# Altium footprint library Diodes.PcbLib: 19 footprints (part 1 of 2)
Each footprint in its own frame and in the unit in brackets; x right, y up, seen from the top. Pads: shape width x height; smd on the part's side, far side on the other; paste and mask are expansions set on the pad; w line width, h text height; cw(c..) or ccw(c..) is an arc to the next point about the centre after c.
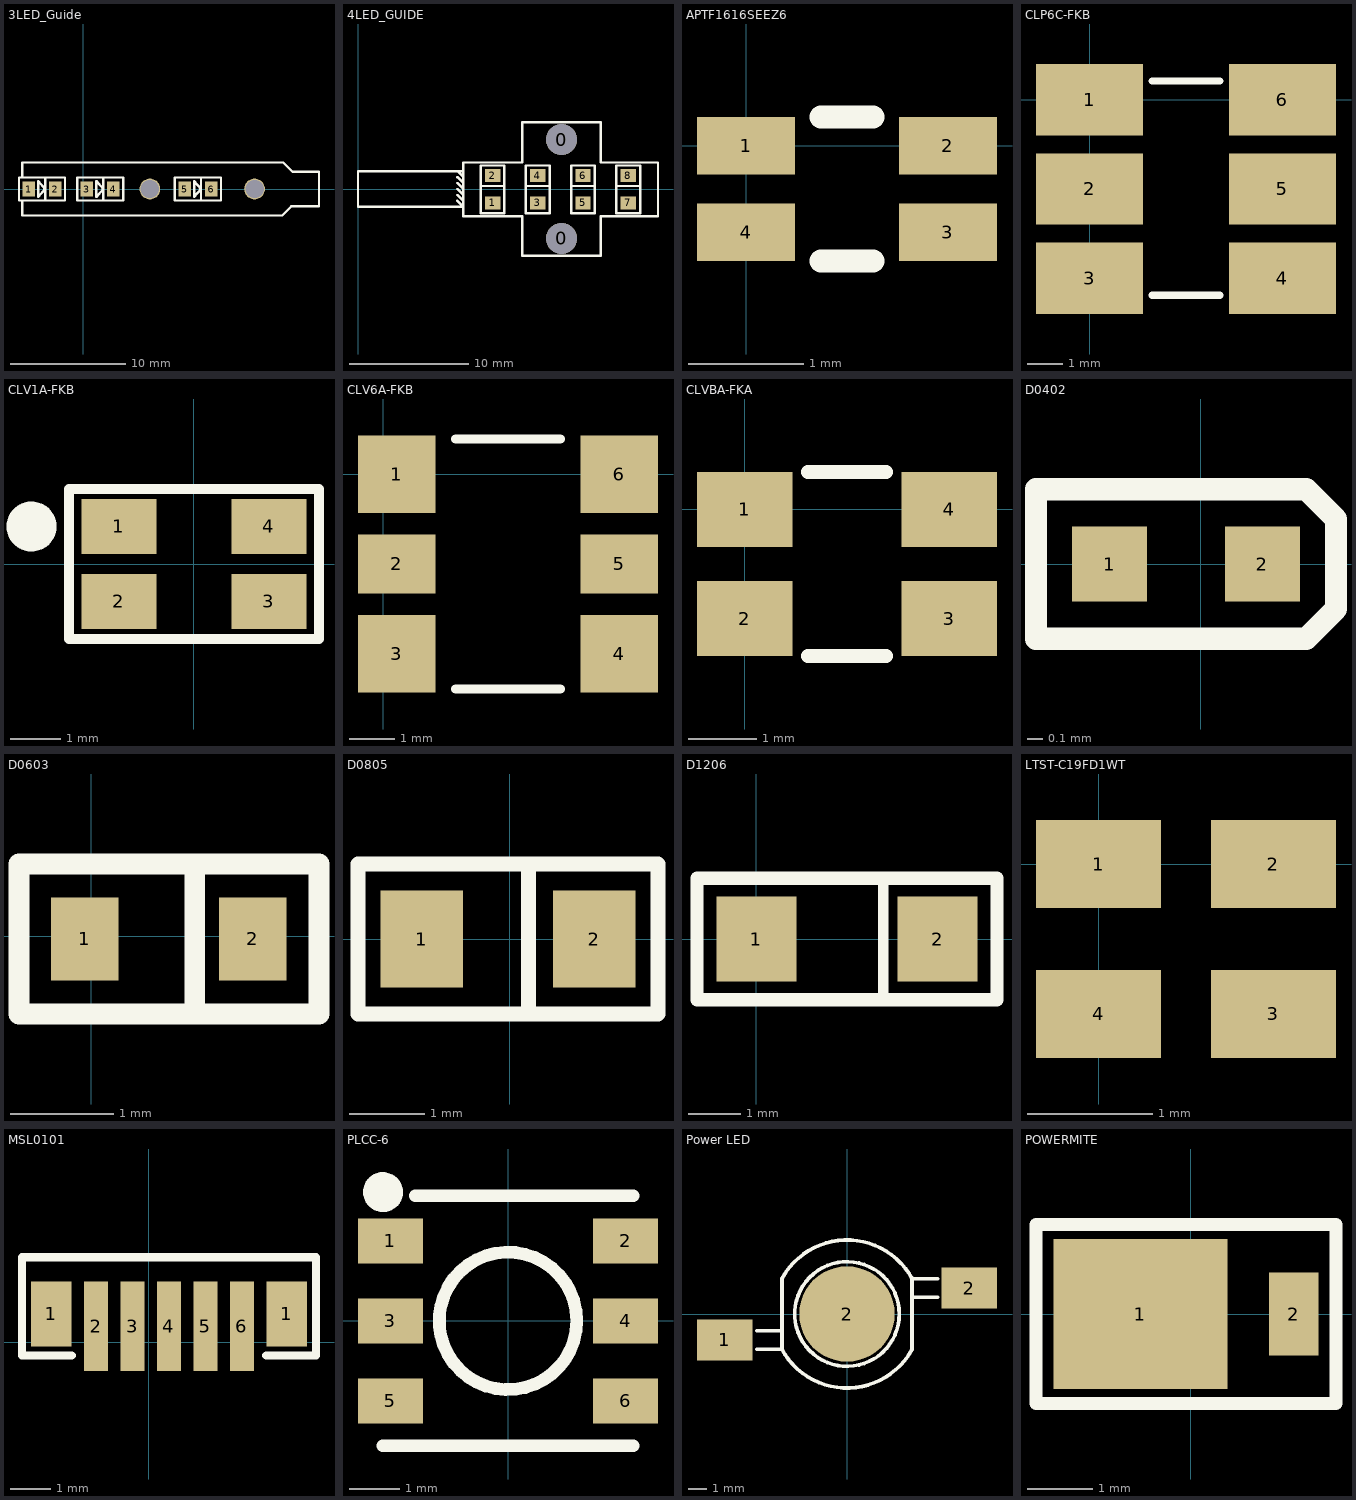
[diagram p0: the footprints below, top view; thin cyan lines are the x and y axes]

## 3LED_Guide [mm] "7511B11"
pads (8):
  rect 1.1x1.3 smd: 1(-4.725,0) 2(-2.425,0) 3(0.325,0) 4(2.625,0) 5(8.825,0) 6(11.125,0)
  round 1.8 hole 1.6: ""(5.8,0) ""(14.9,0)
Top Overlay:
  lines w0.2: -5.3,-1 -5.3,-2.3 17.3,-2.3 18.1,-1.5 20.4,-1.5 ; -5.3,1 -5.3,2.3 17.4,2.3 18.2,1.5 20.5,1.5 20.5,-1.5 ; -3.3,-1 -3.3,1 ; 1.75,-1 1.75,1 ; 10.25,-1 10.25,1 ; -5.575,-1 -5.575,1 -1.575,1 -1.575,-1 -5.575,-1 ; -3.9,-0.7 -3.3,0 -3.9,0.7 -3.9,-0.7 ; -0.525,-1 -0.525,1 3.475,1 3.475,-1 -0.525,-1 ; 1.15,-0.7 1.15,0.7 1.75,0 1.15,-0.7 ; 7.975,-1 7.975,1 11.975,1 11.975,-1 7.975,-1 ; 9.65,-0.7 9.65,0.7 10.25,0 9.65,-0.7
3D body "User Library-led_0805LED0805_red.STEP": height 1.1, standoff 0, extent 8.99,-0.625 11.01,0.625
3D body "User Library-led_0805LED0805_red.STEP": height 1.1, standoff 0, extent 0.49,-0.625 2.51,0.625
3D body "User Library-led_0805LED0805_red.STEP": height 1.1, standoff 0, extent -4.56,-0.625 -2.54,0.625

## 4LED_GUIDE [mm] "For Mentor Led Guide"
pads (10):
  round 2.6 hole 2.6 paste+0 mask+0: 0(17.1,-4.15) 0(17.1,4.15)
  rect 1.3x1.1 smd: 1(11.3,-1.175) 2(11.3,1.125) 3(15.1,-1.175) 4(15.1,1.125) 5(18.9,-1.175) 6(18.9,1.125) 7(22.7,-1.175) 8(22.7,1.125)
Top Overlay:
  lines w0.2: 8.35,-1 8.85,-1.5 0,-1.5 0,1.5 8.85,1.5 ; 8.35,-0.5 8.85,-1 ; 8.35,0 8.85,-0.5 ; 8.35,0.5 8.85,0 ; 8.35,1 8.85,0.5 ; 8.35,1.5 8.85,1 ; 10.3,0.25 12.3,0.25 ; 14.1,0.25 16.1,0.25 ; 17.9,0.25 19.9,0.25 ; 21.7,0.25 23.7,0.25 ; 13.8,-5.6 13.8,-2.275 8.85,-2.275 8.85,2.225 13.8,2.225 13.8,5.6 ; 13.8,-5.6 13.8,-5.6 ; 13.8,-5.6 20.4,-5.6 20.4,-2.275 25.2,-2.275 25.2,2.225 20.4,2.225 20.4,5.6 13.8,5.6 ; 13.8,5.6 13.8,5.6 ; 13.8,5.6 13.8,5.6 ; 10.3,-2.025 10.3,1.975 12.3,1.975 12.3,-2.025 10.3,-2.025 ; 14.1,-2.025 14.1,1.975 16.1,1.975 16.1,-2.025 14.1,-2.025 ; 17.9,-2.025 17.9,1.975 19.9,1.975 19.9,-2.025 17.9,-2.025 ; 21.7,-2.025 21.7,1.975 23.7,1.975 23.7,-2.025 21.7,-2.025
3D body "User Library-led_0805LED0805_red.STEP": height 1.1, standoff 0, extent 22.075,-1.01 23.325,1.01
3D body "User Library-led_0805LED0805_red.STEP": height 1.1, standoff 0, extent 18.275,-1.01 19.525,1.01
3D body "User Library-led_0805LED0805_red.STEP": height 1.1, standoff 0, extent 14.475,-1.01 15.725,1.01
3D body "User Library-led_0805LED0805_red.STEP": height 1.1, standoff 0, extent 10.675,-1.01 11.925,1.01

## APTF1616SEEZ6 [mm] "RGB LED Kingbright APTF1616SEEZ6"
pads (4):
  rect 0.85x0.5 smd: 1(0,0) 2(1.75,0) 3(1.75,-0.75) 4(0,-0.75)
Top Overlay:
  lines w0.2: 0.65,-1 1.1,-1 ; 0.65,0.25 1.1,0.25

## CLP6C-FKB [mm] "RGB LED Cree CLP6C-FKB"
pads (6):
  rect 3x2 smd: 1(0,0) 2(0,-2.5) 3(0,-5) 4(5.4,-5) 5(5.4,-2.5) 6(5.4,0)
Top Overlay:
  lines w0.2: 1.75,-5.475 3.65,-5.475 ; 1.75,0.525 3.65,0.525

## CLV1A-FKB [mm] "RGB LED Cree CLV1A-FKB"
pads (4):
  rect 1.5x1.1 smd: 1(-1.5,0.75) 2(-1.5,-0.75) 3(1.5,-0.75) 4(1.5,0.75)
Top Overlay:
  circle w0.5: c-3.25,0.75 r0.25
  lines w0.2: -2.5,-1.5 -2.5,1.5 2.5,1.5 2.5,-1.5 -2.5,-1.5
3D body "User Library-PLCC4RGBCT-CA LED SMD RGB.step": height 1.88, standoff -0.02, extent -1.75,-1.4 1.75,1.4

## CLV6A-FKB [mm] "RGB LED Cree"
pads (6):
  rect 1.7x1.7 smd: 1(0.3,0) 3(0.3,-3.95) 4(5.2,-3.95) 6(5.2,0)
  rect 1.7x1.3 smd: 2(0.3,-1.975) 5(5.2,-1.975)
Top Overlay:
  lines w0.2: 1.6,-4.725 3.9,-4.725 ; 1.6,0.775 3.9,0.775
3D body "User Library-Cree PLCC6 LED model.STEP": height 2.6, standoff 0, extent 0,-4.7 5.5,0.8

## CLVBA-FKA [mm] "RGB LED Cree"
pads (4):
  rect 1.4x1.1 smd: 1(0,0) 2(0,-1.6) 3(3,-1.6) 4(3,0)
Top Overlay:
  lines w0.2: 0.925,-2.15 2.075,-2.15 ; 0.925,0.55 2.075,0.55

## D0402 [mm]
pads (2):
  rect 0.5x0.5 smd: 1(-0.61,0) 2(0.41,0)
Top Overlay:
  lines w0.15: -1.1,-0.5 0.7,-0.5 0.9,-0.3 0.9,0.3 0.7,0.5 -1.1,0.5 -1.1,-0.5
3D body "User Library-CDBQ0230L.step": height 0.56, standoff 0, extent -0.646,-0.33 0.446,0.33

## D0603 [mm]
pads (2):
  rect 0.65x0.8 smd: 1(-0.065,-0.025) 2(1.56,-0.025)
Top Overlay:
  lines w0.2: 1,-0.725 1,0.7 ; -0.7,-0.75 -0.7,0.7 2.2,0.7 2.2,-0.75 -0.7,-0.75
3D body "User Library-D0603.step": height 0.56, standoff 0, extent -0.125,-0.425 1.575,0.375

## D0805 [mm]
pads (2):
  rect 1.1x1.3 smd: 1(-1.175,0) 2(1.125,0)
Top Overlay:
  lines w0.2: 0.25,-1 0.25,1 ; -2.025,-1 -2.025,1 1.975,1 1.975,-1 -2.025,-1
3D body "User Library-led_0805LED0805_red.STEP": height 1.1, standoff 0, extent -1.01,-0.625 1.01,0.625

## D1206 [mm]
pads (2):
  rect 1.52x1.6 smd: 1(0,0) 2(3.425,0)
Top Overlay:
  lines w0.2: 2.4,-1.125 2.4,1.15
  lines w0.254: -1.125,-1.15 4.55,-1.15 4.55,1.15 -1.125,1.15 -1.125,-1.15
3D body "User Library-RES_3216-1206.STEP": height 0.85, standoff 0, extent 0.025,-0.865 3.375,0.865

## LTST-C19FD1WT [mm] "RGB LED LightOn"
pads (4):
  rect 1x0.7 smd: 1(0,0) 2(1.4,0) 3(1.4,-1.2) 4(0,-1.2)

## MSL0101 [mm] "RGB SMD angle LED"
pads (7):
  rect 1x1.6 smd: 1(-2.4,0.7) 1(3.4,0.7)
  rect 0.6x2.2 smd: 2(-1.3,0.4) 3(-0.4,0.4) 4(0.5,0.4) 5(1.4,0.4) 6(2.3,0.4)
Top Overlay:
  lines w0.2: -1.9,-0.325 -3.125,-0.325 -3.125,2.1 4.125,2.1 4.125,-0.325 2.9,-0.325

## PLCC-6 [mm]
pads (6):
  rect 1.3x0.9 smd: 1(-2.35,1.6) 2(2.35,1.6) 3(-2.35,0) 4(2.35,0) 5(-2.35,-1.6) 6(2.35,-1.6)
Top Overlay:
  circle w0.4: c-2.5,2.575 r0.2
  circle w0.254: c0,0 r1.375
  lines w0.254: -2.5,-2.5 2.5,-2.5 ; -1.85,2.5 2.5,2.5
3D body "User Library-Cree PLCC6 LED model.STEP": height 2.6, standoff 0, extent -2.75,-2.75 2.75,2.75

## Power LED [mm]
pads (3):
  rect 3x2.2 smd: 1(-6.6,-1.4) 2(6.6,1.4)
  round 5.15 smd: 2(0,0)
Top Overlay:
  circle w0.2: c0,0 r2.825
  lines w0.15: -3.515,-1.9 ccw(c-3.515,-1.885) -3.5,-1.885 ; 3.5,1.885 cw(c3.515,1.885) 3.515,1.9
  lines w0.2: -4.875,-1.9 -3.505,-1.9 ; -4.875,-0.9 -3.505,-0.9 ; -3.522,-1.896 ccw(c0,0) 3.492,-1.951 ; -3.505,-1.925 -3.505,1.926 ; -3.492,1.951 cw(c0,0) 3.519,1.902 ; 3.505,-1.926 3.505,1.925 ; 3.505,0.9 4.9,0.9 ; 3.505,1.9 4.9,1.9
3D body "User Library-Power LED2.step": height 5.55, standoff 0, extent -7.25,-4 7.25,4

## POWERMITE [mm]
pads (2):
  rect 2.67x2.3 smd: 1(-0.775,0)
  rect 0.762x1.27 smd: 2(1.575,0)
Top Overlay:
  lines w0.2: -2.375,-1.375 2.225,-1.375 2.225,1.375 -2.375,1.375 -2.375,-1.375
3D body "User Library-microsemi_powermite.step": height 1.02, standoff 0, extent -1.95,-0.96 1.81,0.95